# EAGLE library part SN74LVC2G241 (library diode-20CJQ030)
Ti's SN74LVC2G241 Dual Buffer/Driver with 3.States Output Description: This dual buffer/line driver is designed for 1.65-V to 5.5-V VCC operation. The SN74LVC2G241 is designed specifically to improve both the performance and memory-address drivers, clock drivers, and bus-oriented receivers and transmitters. Features: Available in the Texas Instruments NanoStar and NanoFree Packages Supports 5-V VCC Operation Inputs Accept Voltages to 5.5 V Max tpd of 4.1 ns at 3.3 V Low Power Consumption, 10-uA Max ICC ±24-mA Output Drive at 3.3 V Typical VOLP (Output Ground Bounce) less then 0.8 V at VCC = 3.3 V, TA = 25°C Typical VOHV (Output VOH Undershoot) greater then 2 V at VCC = 3.3 V, TA = 25°C Ioff Supports Partial-Power-Down Mode Operation Latch-Up Performance Exceeds 100 mA Per JESD 78, Class II ESD Protection Exceeds JESD 22 - 2000-V Human-Body Model (A114-A) - 200-V Machine Model (A115-A) - 1000-V Charged-Device Model (C101) Please send any comments to: messi@users.sourceforge.net
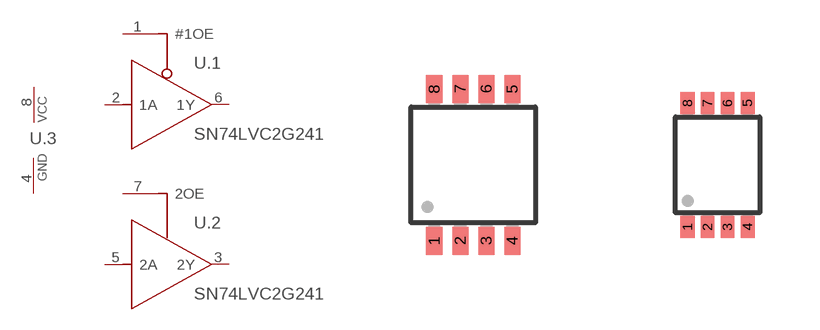
[diagram p99: symbol with the pads of SSOP8; footprints SSOP8, VSSOP8]

Designator prefix U; gates .1=INV_BUFFER .2=NON_INV_BUFFER .3=PWR_GND

## SN74LVC2G241DCT  [SSOP8]
1  .1:#1OE  in
2  .1:1A  in
3  .2:2Y  out
4  .3:GND  pwr
5  .2:2A  in
6  .1:1Y  out
7  .2:2OE  in
8  .3:VCC  pwr

## SN74LVC2G241DCU  [VSSOP8]
Pads as for SSOP8

## Footprint SSOP8 (pad centres in mm)
smd 0.4 x 0.7: 1 -0.975,-1.9; 2 -0.325,-1.9; 3 0.325,-1.9; 4 0.975,-1.9; 5 0.975,1.9; 6 0.325,1.9; 7 -0.325,1.9; 8 -0.975,1.9

## Footprint VSSOP8 (pad centres in mm)
smd 0.35 x 0.55: 1 -0.75,-1.55; 2 -0.25,-1.55; 3 0.25,-1.55; 4 0.75,-1.55; 5 0.75,1.55; 6 0.25,1.55; 7 -0.25,1.55; 8 -0.75,1.55